# Altium footprint library MOC3023.PcbLib: 1 footprints
Each footprint in its own frame and in the unit in brackets; x right, y up, seen from the top. Pads: shape width x height; smd on the part's side, far side on the other; paste and mask are expansions set on the pad; w line width, h text height; cw(c..) or ccw(c..) is an arc to the next point about the centre after c.
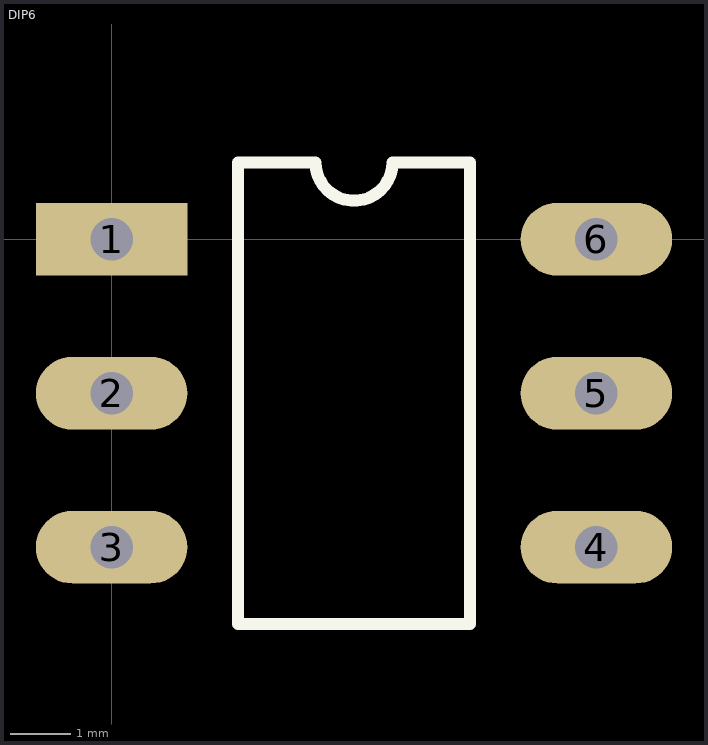
[diagram p0: the footprint, top view; thin cyan lines are the x and y axes]

## DIP6 [mm]
pads (6):
  rect 2.5x1.2 hole 0.7: 1(0,0)
  oval 2.5x1.2 hole 0.7: 2(0,-2.54) 3(0,-5.08) 4(8,-5.08) 5(8,-2.54) 6(8,0)
Top Overlay:
  lines w0.2: 2.085,-6.35 5.915,-6.35 5.915,1.27 4.635,1.27 cw(c4,1.27) 3.365,1.27 2.085,1.27 2.085,-6.35
3D body: height 5.3, standoff -2, extent 0.065,-6.1 7.935,1.02